# EAGLE library part ISP-HEADER (library FiftyOneFunParts)
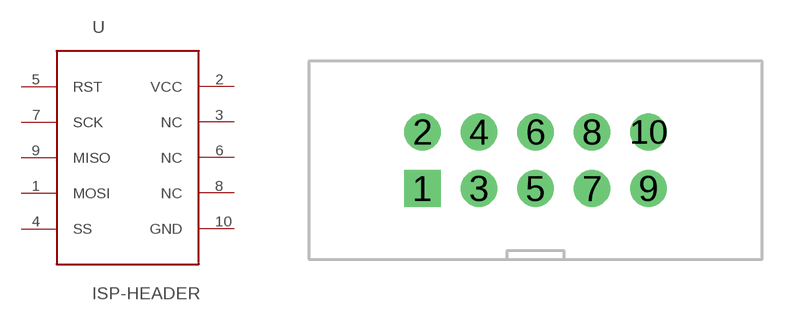
[diagram p6: symbol with the pads of ISP-HEADER; footprint ISP-HEADER]

Designator prefix -

## ISP-HEADER  [ISP-HEADER]
1  MOSI
2  VCC
3  NC
4  SS
5  RST
6  NC
7  SCK
8  NC
9  MISO
10  GND

## Footprint ISP-HEADER (pad centres in mm)
drill 1.1 square: 1 -5.08,-1.27
drill 1.1: 2 -5.08,1.27; 3 -2.54,-1.27; 4 -2.54,1.27; 5 0,-1.27; 6 0,1.27; 7 2.54,-1.27; 8 2.54,1.27; 9 5.08,-1.27; 10 5.08,1.27